# Altium footprint library inductor.PcbLib: 1 footprints
Each footprint in its own frame and in the unit in brackets; x right, y up, seen from the top. Pads: shape width x height; smd on the part's side, far side on the other; paste and mask are expansions set on the pad; w line width, h text height; cw(c..) or ccw(c..) is an arc to the next point about the centre after c.
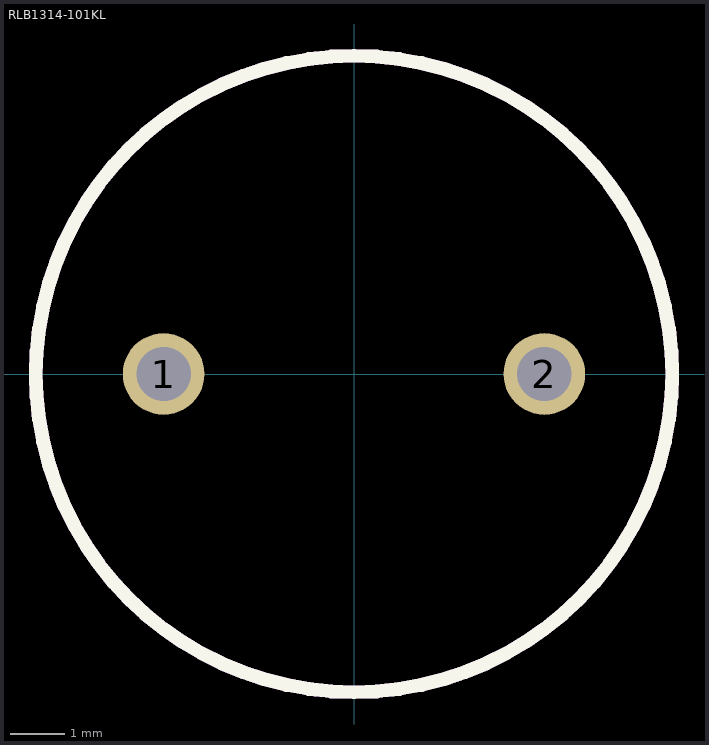
[diagram p0: the footprint, top view; thin cyan lines are the x and y axes]

## RLB1314-101KL [mm]
pads (2):
  round 1.5 hole 1: 1(-3.5,0) 2(3.5,0)
Top Overlay:
  circle w0.254: c0,0 r5.85
Mechanical 13:
  circle w0.254: c0,0 r5.85
3D body "RLB1314-101KL.stp": height 13, standoff -20, extent -5.85,-5.85 5.85,5.85